# Altium schematic symbol library Блок вычислительный 1а.SCHLIB: 82 symbols
Pins are listed as number, name and electrical type; pins without a type are passive.

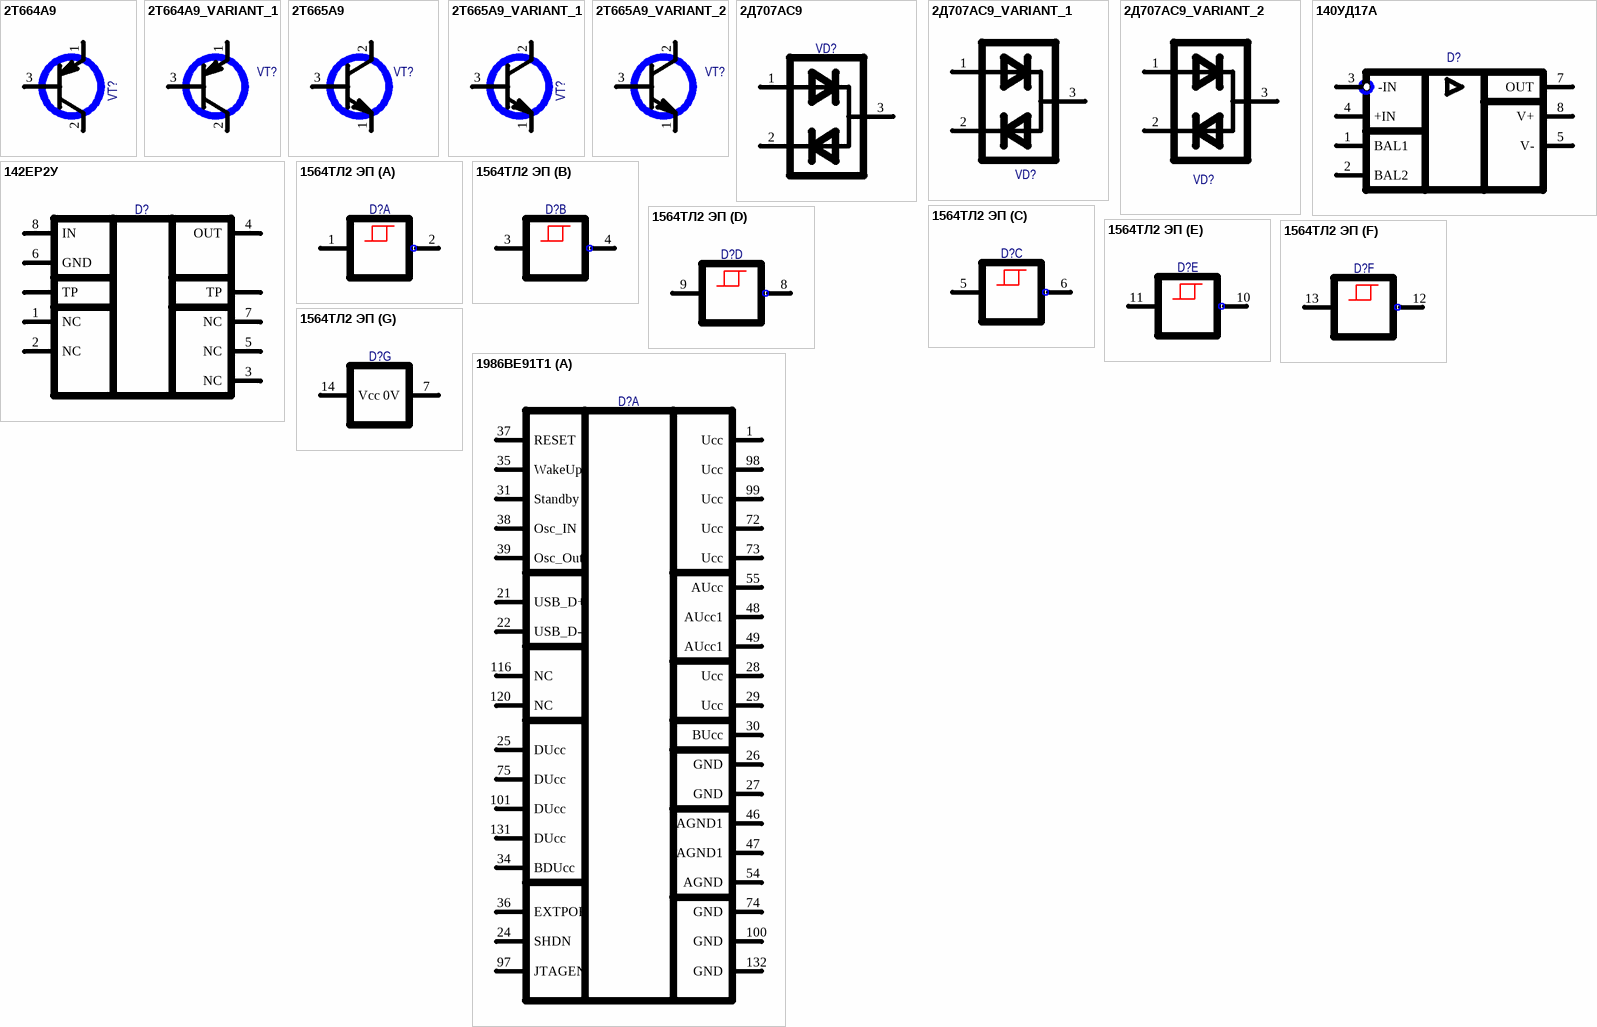
[diagram p0: symbols 2T664A9 to 1986ВЕ91Т1]

## 2T664A9
designator VT?  (value not drawn)
TU: аА0.339.559ТУ; Value: 2T664A9
pins: 1, 2, 3

## 2T664A9_VARIANT_1
designator VT?, comment 2T664A9  (value not drawn)
2T664A9_VARIANT_1; TU: аА0.339.559ТУ; Value: 2T664A9
pins: 1, 2, 3

## 2T665A9
designator VT?  (value not drawn)
TU: аА0.339.559ТУ; Value: 2T665A9
pins: 1, 2, 3

## 2T665A9_VARIANT_1
designator VT?, comment 2T665A9  (value not drawn)
2T665A9_VARIANT_1; TU: аА0.339.559ТУ; Value: 2T665A9
pins: 1, 2, 3

## 2T665A9_VARIANT_2
designator VT?, comment 2T665A9  (value not drawn)
2T665A9_VARIANT_2; TU: аА0.339.559ТУ; Value: 2T665A9
pins: 1, 2, 3

## 2Д707АС9
designator VD?  (value not drawn)
TU: аА0.339.583ТУ; Value: 2Д707АС9
pins: 1, 2, 3

## 2Д707АС9_VARIANT_1
designator VD?, comment 2Д707АС9  (value not drawn)
2Д707АС9_VARIANT_1; TU: аА0.339.583ТУ; Value: 2Д707АС9
pins: 1, 2, 3

## 2Д707АС9_VARIANT_2
designator VD?, comment 2Д707АС9  (value not drawn)
2Д707АС9_VARIANT_2; TU: аА0.339.583ТУ; Value: 2Д707АС9
pins: 1, 2, 3

## 140УД17А
designator D?  (value not drawn)
Value: 140УД17А ВК; TU: АЕЯР.431130.171-17ТУ
pins: 1 BAL1, 2 BAL2, 3 -IN, 4 +IN, 5 V-, 7 OUT, 8 V+

## 142ЕР2У
designator D?  (value not drawn)
TU: АЕЯР.431420.363-01ТУ; Value: 142ЕР2У
pins: 1 NC, 2 NC, 3 NC, 4 OUT, 5 NC, 6 GND, 7 NC, 8 IN, TP1 TP, TP2 TP

## 1564ТЛ2 ЭП
designator D?  (value not drawn)
TU: АЕЯР.431200.424-07ТУ; Value: 1564ТЛ2 ЭП
part A pins: 1, 2
part B pins: 3, 4
part C pins: 5, 6
part D pins: 8, 9
part E pins: 10, 11
part F pins: 12, 13
part G pins: 7 0V, 14 Vcc

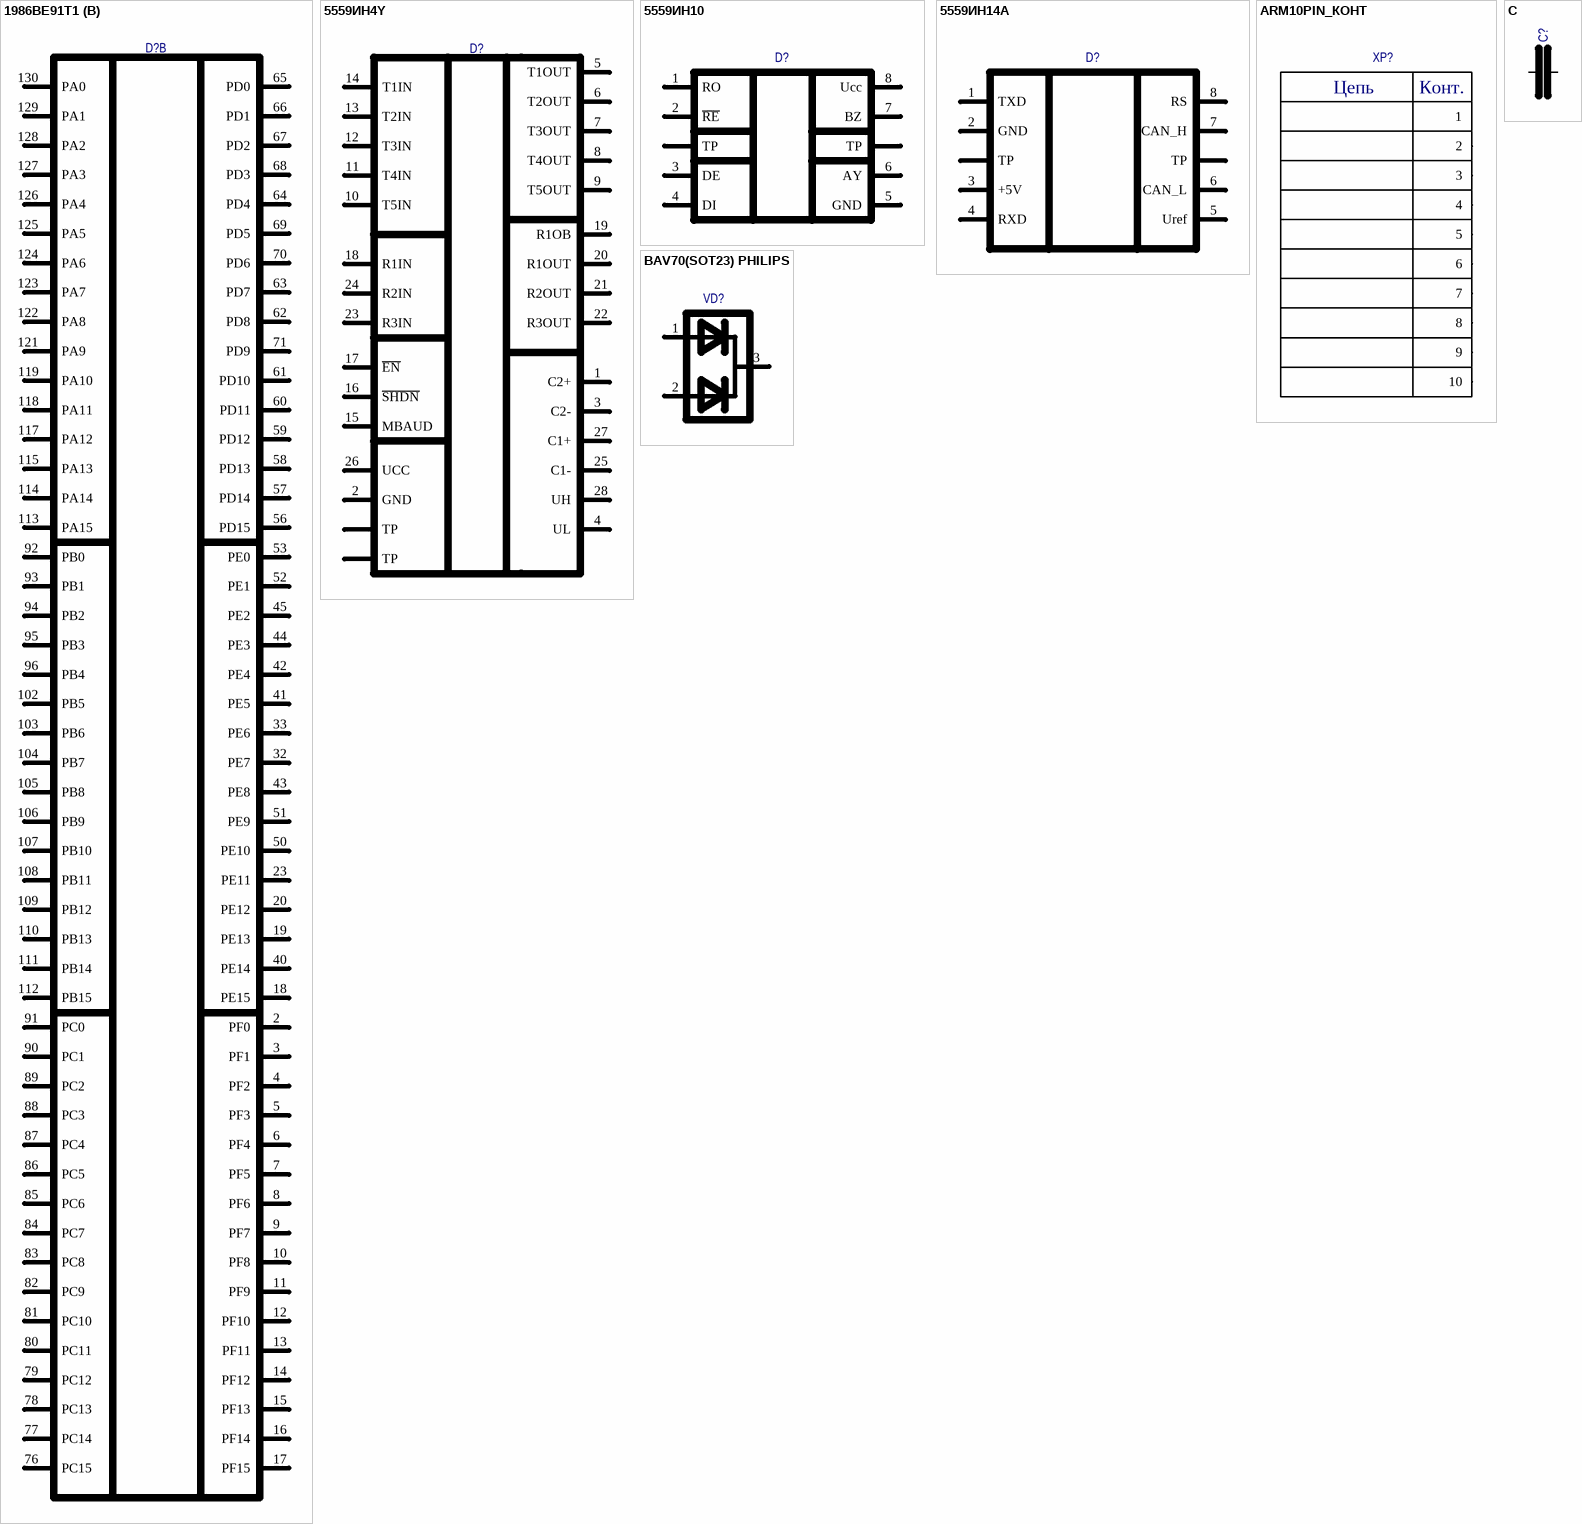
[diagram p1: symbols 1986ВЕ91Т1 to C]

## 1986ВЕ91Т1
designator D?  (value not drawn)
TU: АЕЯР.431290.711ТУ; Value: 1986ВЕ91Т1
part A pins: 1 Ucc, 21 USB_D+, 22 USB_D-, 24 SHDN, 25 DUcc, 26 GND, 27 GND, 28 Ucc, 29 Ucc, 30 BUcc, 31 Standby, 34 BDUcc, 35 WakeUp, 36 EXTPOR, 37 RESET, 38 Osc_IN, 39 Osc_Out, 46 AGND1, 47 AGND1, 48 AUcc1, 49 AUcc1, 54 AGND, 55 AUcc, 72 Ucc, 73 Ucc, 74 GND, 75 DUcc, 97 JTAGEN, 98 Ucc, 99 Ucc, 100 GND, 101 DUcc, 116 NC, 120 NC, 131 DUcc, 132 GND
part B pins: 2 PF0, 3 PF1, 4 PF2, 5 PF3, 6 PF4, 7 PF5, 8 PF6, 9 PF7, 10 PF8, 11 PF9, 12 PF10, 13 PF11, 14 PF12, 15 PF13, 16 PF14, 17 PF15, 18 PE15, 19 PE13, 20 PE12, 23 PE11, 32 PE7, 33 PE6, 40 PE14, 41 PE5, 42 PE4, 43 PE8, 44 PE3, 45 PE2, 50 PE10, 51 PE9, 52 PE1, 53 PE0, 56 PD15, 57 PD14, 58 PD13, 59 PD12, 60 PD11, 61 PD10, 62 PD8, 63 PD7, 64 PD4, 65 PD0, 66 PD1, 67 PD2, 68 PD3, 69 PD5, 70 PD6, 71 PD9, 76 PC15, 77 PC14, 78 PC13, 79 PC12, 80 PC11, 81 PC10, 82 PC9, 83 PC8, 84 PC7, 85 PC6, 86 PC5, 87 PC4, 88 PC3, 89 PC2, 90 PC1, 91 PC0, 92 PB0, 93 PB1, 94 PB2, 95 PB3, 96 PB4, 102 PB5, 103 PB6, 104 PB7, 105 PB8, 106 PB9, 107 PB10, 108 PB11, 109 PB12, 110 PB13, 111 PB14, 112 PB15, 113 PA15, 114 PA14, 115 PA13, 117 PA12, 118 PA11, 119 PA10, 121 PA9, 122 PA8, 123 PA7, 124 PA6, 125 PA5, 126 PA4, 127 PA3, 128 PA2, 129 PA1, 130 PA0

## 5559ИН4Y
designator D?  (value not drawn)
Value: 5559ИН4У; TU: АЕЯР.431230.460ТУ
pins: 1 C2+, 2 GND, 3 C2-, 4 UL, 5 T1OUT, 6 T2OUT, 7 T3OUT, 8 T4OUT, 9 T5OUT, 10 T5IN, 11 T4IN, 12 T3IN, 13 T2IN, 14 T1IN, 15 MBAUD, 16 ~{SHDN}, 17 ~{EN}, 18 R1IN, 19 R1OB, 20 R1OUT, 21 R2OUT, 22 R3OUT, 23 R3IN, 24 R2IN, 25 C1-, 26 UCC, 27 C1+, 28 UH, TP1 TP, TP2 TP

## 5559ИН10
designator D?  (value not drawn)
Value: 5559ИН10АУ; TU: АЕЯР.431230.645ТУ
pins: 1 RO, 2 ~{RE}, 3 DE, 4 DI, 5 GND, 6 AY, 7 BZ, 8 Ucc, TP1 TP, TP2 TP

## 5559ИН14А
designator D?  (value not drawn)
Value: 5559ИН14АУ; TU: АЕЯР.431230.652ТУ
pins: 1 TXD, 2 GND, 3 +5V, 4 RXD, 5 Uref, 6 CAN_L, 7 CAN_H, 8 RS, TP1 TP, TP2 TP

## ARM10PIN_КОНТ
designator XP?  (value not drawn)
Value: Вилка СНП346-10ВП21-2В; TU: РЮМК.430420.011ТУ
pins: 1, 2, 3, 4, 5, 6, 7, 8, 9, 10
text: Цепь; Конт.

## BAV70(SOT23) PHILIPS
designator VD?  (value not drawn)
Value: Диод BAT54C, SOT-23, Fairchild semiconductor
pins: 1, 2, 3

## C
designator C?  (value not drawn)
TU: АЖЯР.673511.002ТУ
pins: 1, 2

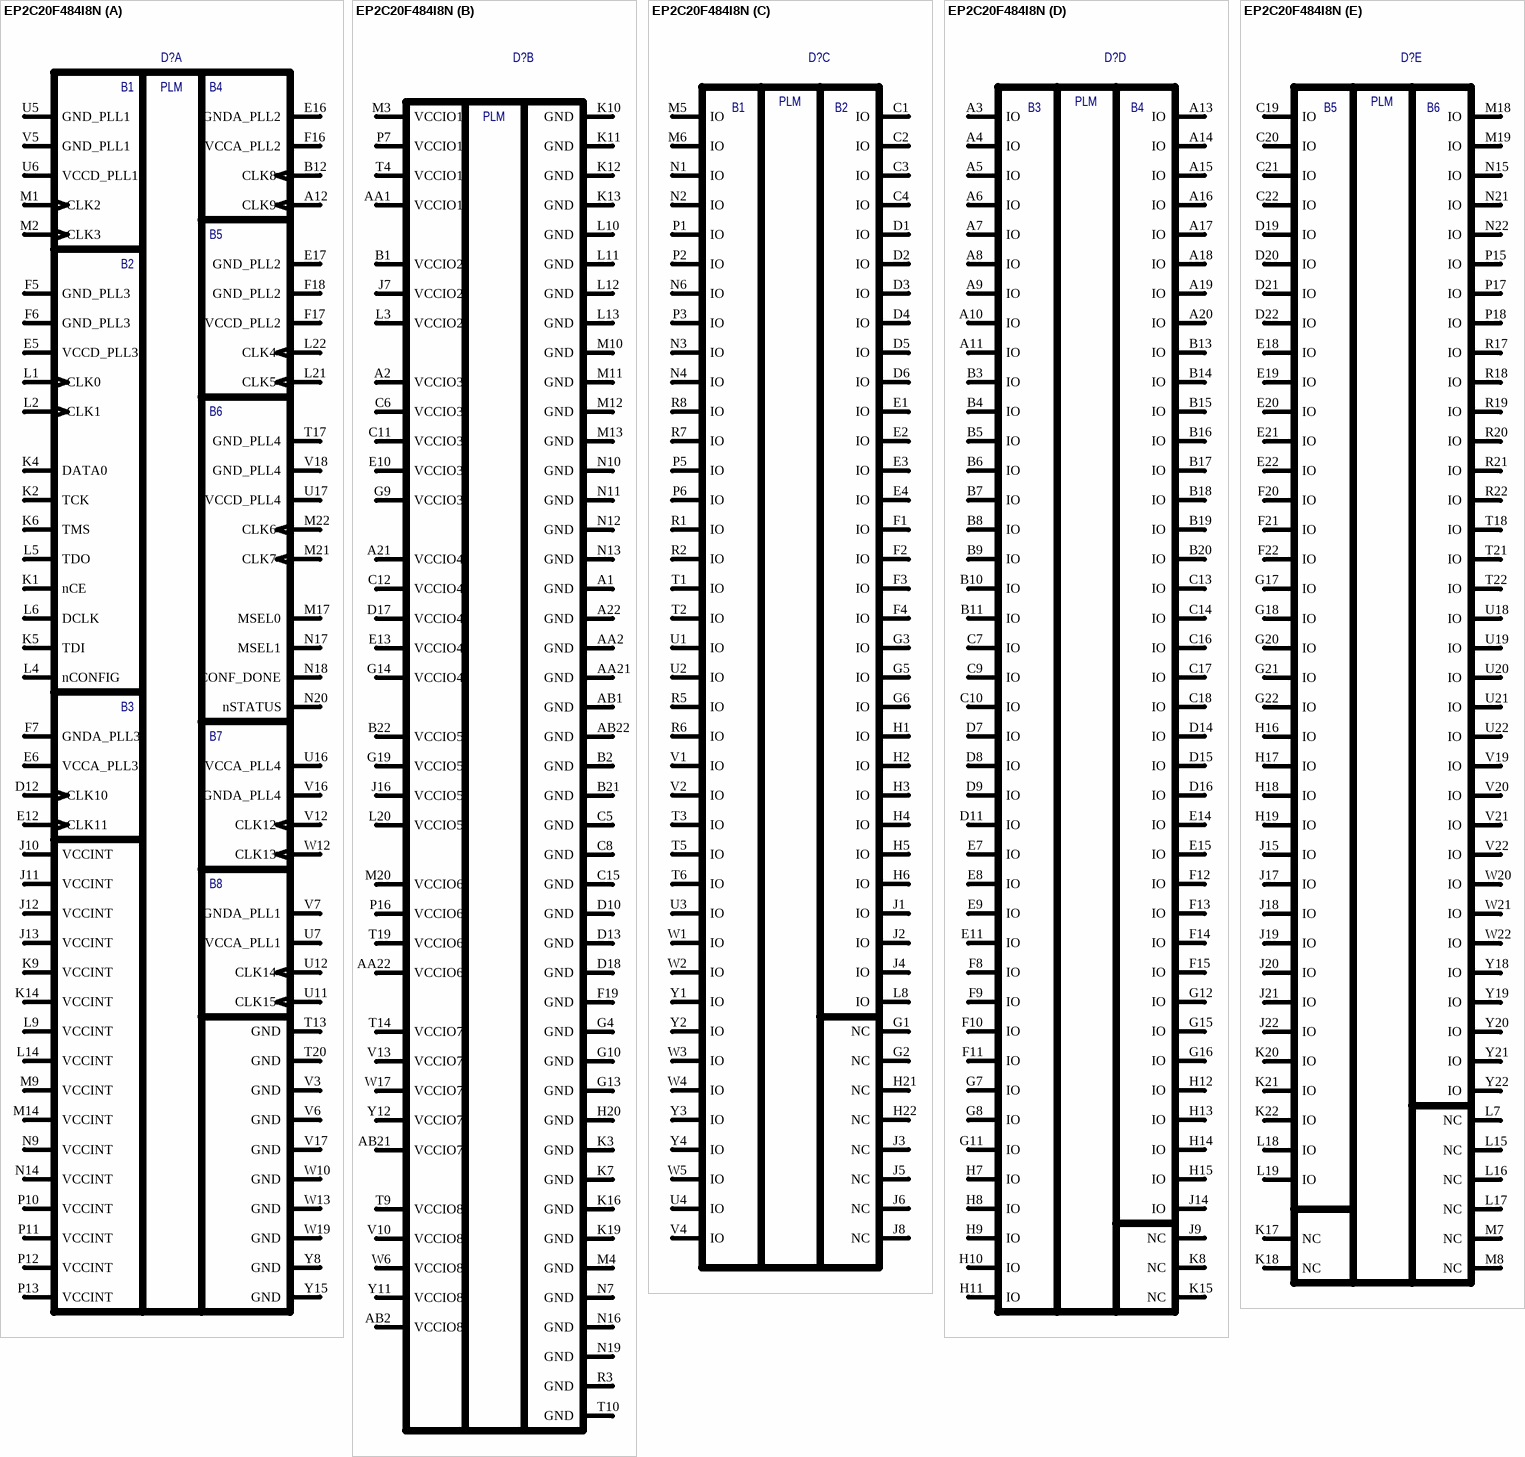
[diagram p2: symbol EP2C20F484I8N]

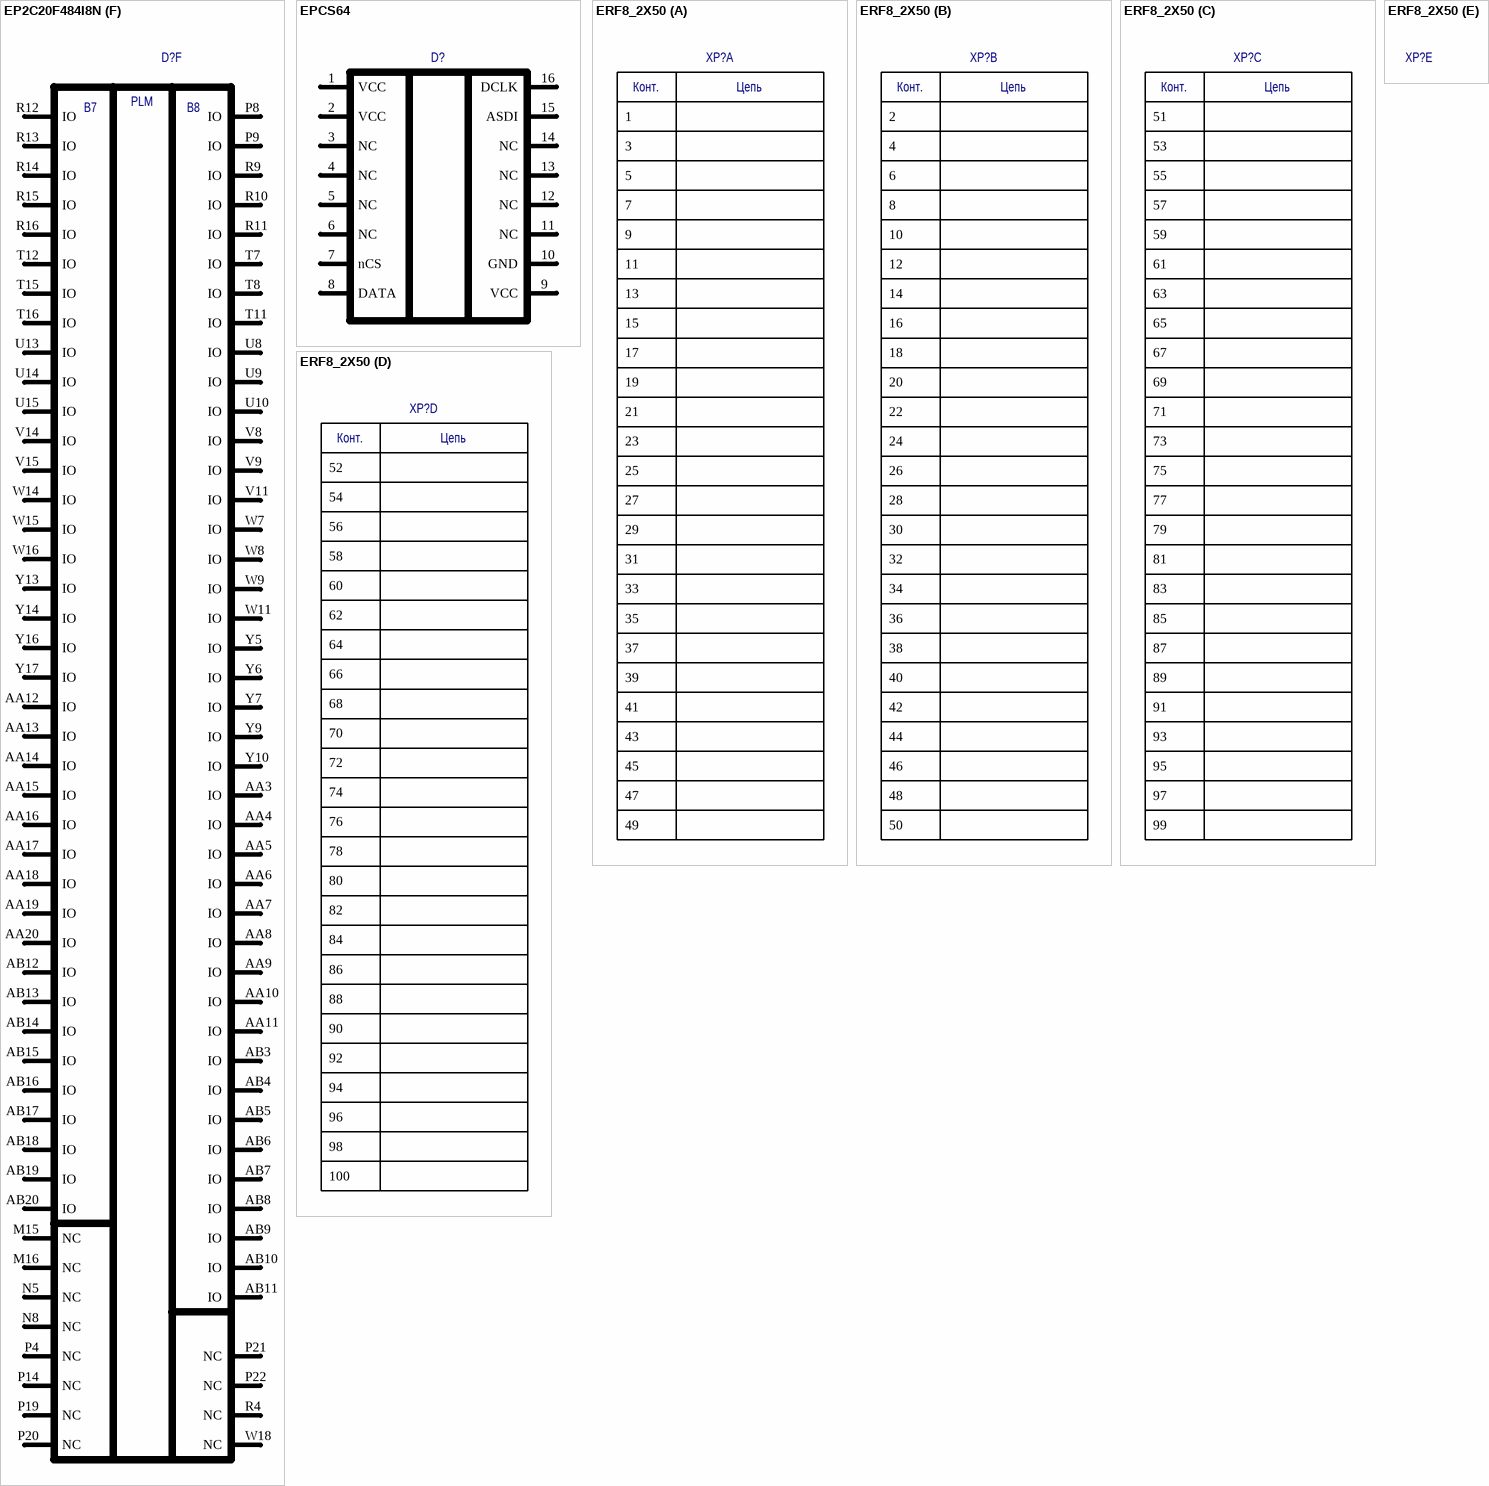
[diagram p3: symbols EP2C20F484I8N to ERF8_2X50]

## EP2C20F484I8N
designator D?  (value not drawn)
Value: EP2C20F484I8N, FBGA-484, Altera
part A pins: A12 CLK9, B12 CLK8, D12 CLK10, E5 VCCD_PLL3, E6 VCCA_PLL3, E12 CLK11, E16 GNDA_PLL2, E17 GND_PLL2, F5 GND_PLL3, F6 GND_PLL3, F7 GNDA_PLL3, F16 VCCA_PLL2, F17 VCCD_PLL2, F18 GND_PLL2, J10 VCCINT, J11 VCCINT, J12 VCCINT, J13 VCCINT, K1 nCE, K2 TCK, K4 DATA0, K5 TDI, K6 TMS, K9 VCCINT, K14 VCCINT, L1 CLK0, L2 CLK1, L4 nCONFIG, L5 TDO, L6 DCLK, L9 VCCINT, L14 VCCINT, L21 CLK5, L22 CLK4, M1 CLK2, M2 CLK3, M9 VCCINT, M14 VCCINT, M17 MSEL0, M21 CLK7, M22 CLK6, N9 VCCINT, N14 VCCINT, N17 MSEL1, N18 CONF_DONE, N20 nSTATUS, P10 VCCINT, P11 VCCINT, P12 VCCINT, P13 VCCINT, T13 GND, T17 GND_PLL4, T20 GND, U5 GND_PLL1, U6 VCCD_PLL1, U7 VCCA_PLL1, U11 CLK15, U12 CLK14, U16 VCCA_PLL4, U17 VCCD_PLL4, V3 GND, V5 GND_PLL1, V6 GND, V7 GNDA_PLL1, V12 CLK12, V16 GNDA_PLL4, V17 GND, V18 GND_PLL4, W10 GND, W12 CLK13, W13 GND, W19 GND, Y8 GND, Y15 GND
part B pins: A1 GND, A2 VCCIO3, A21 VCCIO4, A22 GND, AA1 VCCIO1, AA2 GND, AA21 GND, AA22 VCCIO6, AB1 GND, AB2 VCCIO8, AB21 VCCIO7, AB22 GND, B1 VCCIO2, B2 GND, B21 GND, B22 VCCIO5, C5 GND, C6 VCCIO3, C8 GND, C11 VCCIO3, C12 VCCIO4, C15 GND, D10 GND, D13 GND, D17 VCCIO4, D18 GND, E10 VCCIO3, E13 VCCIO4, F19 GND, G4 GND, G9 VCCIO3, G10 GND, G13 GND, G14 VCCIO4, G19 VCCIO5, H20 GND, J7 VCCIO2, J16 VCCIO5, K3 GND, K7 GND, K10 GND, K11 GND, K12 GND, K13 GND, K16 GND, K19 GND, L3 VCCIO2, L10 GND, L11 GND, L12 GND, L13 GND, L20 VCCIO5, M3 VCCIO1, M4 GND, M10 GND, M11 GND, M12 GND, M13 GND, M20 VCCIO6, N7 GND, N10 GND, N11 GND, N12 GND, N13 GND, N16 GND, N19 GND, P7 VCCIO1, P16 VCCIO6, R3 GND, T4 VCCIO1, T9 VCCIO8, T10 GND, T14 VCCIO7, T19 VCCIO6, V10 VCCIO8, V13 VCCIO7, W6 VCCIO8, W17 VCCIO7, Y11 VCCIO8, Y12 VCCIO7
part C pins: C1 IO, C2 IO, C3 IO, C4 IO, D1 IO, D2 IO, D3 IO, D4 IO, D5 IO, D6 IO, E1 IO, E2 IO, E3 IO, E4 IO, F1 IO, F2 IO, F3 IO, F4 IO, G1 NC, G2 NC, G3 IO, G5 IO, G6 IO, H1 IO, H2 IO, H3 IO, H4 IO, H5 IO, H6 IO, H21 NC, H22 NC, J1 IO, J2 IO, J3 NC, J4 IO, J5 NC, J6 NC, J8 NC, L8 IO, M5 IO, M6 IO, N1 IO, N2 IO, N3 IO, N4 IO, N6 IO, P1 IO, P2 IO, P3 IO, P5 IO, P6 IO, R1 IO, R2 IO, R5 IO, R6 IO, R7 IO, R8 IO, T1 IO, T2 IO, T3 IO, T5 IO, T6 IO, U1 IO, U2 IO, U3 IO, U4 IO, V1 IO, V2 IO, V4 IO, W1 IO, W2 IO, W3 IO, W4 IO, W5 IO, Y1 IO, Y2 IO, Y3 IO, Y4 IO
part D pins: A3 IO, A4 IO, A5 IO, A6 IO, A7 IO, A8 IO, A9 IO, A10 IO, A11 IO, A13 IO, A14 IO, A15 IO, A16 IO, A17 IO, A18 IO, A19 IO, A20 IO, B3 IO, B4 IO, B5 IO, B6 IO, B7 IO, B8 IO, B9 IO, B10 IO, B11 IO, B13 IO, B14 IO, B15 IO, B16 IO, B17 IO, B18 IO, B19 IO, B20 IO, C7 IO, C9 IO, C10 IO, C13 IO, C14 IO, C16 IO, C17 IO, C18 IO, D7 IO, D8 IO, D9 IO, D11 IO, D14 IO, D15 IO, D16 IO, E7 IO, E8 IO, E9 IO, E11 IO, E14 IO, E15 IO, F8 IO, F9 IO, F10 IO, F11 IO, F12 IO, F13 IO, F14 IO, F15 IO, G7 IO, G8 IO, G11 IO, G12 IO, G15 IO, G16 IO, H7 IO, H8 IO, H9 IO, H10 IO, H11 IO, H12 IO, H13 IO, H14 IO, H15 IO, J9 NC, J14 IO, K8 NC, K15 NC
part E pins: C19 IO, C20 IO, C21 IO, C22 IO, D19 IO, D20 IO, D21 IO, D22 IO, E18 IO, E19 IO, E20 IO, E21 IO, E22 IO, F20 IO, F21 IO, F22 IO, G17 IO, G18 IO, G20 IO, G21 IO, G22 IO, H16 IO, H17 IO, H18 IO, H19 IO, J15 IO, J17 IO, J18 IO, J19 IO, J20 IO, J21 IO, J22 IO, K17 NC, K18 NC, K20 IO, K21 IO, K22 IO, L7 NC, L15 NC, L16 NC, L17 NC, L18 IO, L19 IO, M7 NC, M8 NC, M18 IO, M19 IO, N15 IO, N21 IO, N22 IO, P15 IO, P17 IO, P18 IO, R17 IO, R18 IO, R19 IO, R20 IO, R21 IO, R22 IO, T18 IO, T21 IO, T22 IO, U18 IO, U19 IO, U20 IO, U21 IO, U22 IO, V19 IO, V20 IO, V21 IO, V22 IO, W20 IO, W21 IO, W22 IO, Y18 IO, Y19 IO, Y20 IO, Y21 IO, Y22 IO
part F pins: AA3 IO, AA4 IO, AA5 IO, AA6 IO, AA7 IO, AA8 IO, AA9 IO, AA10 IO, AA11 IO, AA12 IO, AA13 IO, AA14 IO, AA15 IO, AA16 IO, AA17 IO, AA18 IO, AA19 IO, AA20 IO, AB3 IO, AB4 IO, AB5 IO, AB6 IO, AB7 IO, AB8 IO, AB9 IO, AB10 IO, AB11 IO, AB12 IO, AB13 IO, AB14 IO, AB15 IO, AB16 IO, AB17 IO, AB18 IO, AB19 IO, AB20 IO, M15 NC, M16 NC, N5 NC, N8 NC, P4 NC, P8 IO, P9 IO, P14 NC, P19 NC, P20 NC, P21 NC, P22 NC, R4 NC, R9 IO, R10 IO, R11 IO, R12 IO, R13 IO, R14 IO, R15 IO, R16 IO, T7 IO, T8 IO, T11 IO, T12 IO, T15 IO, T16 IO, U8 IO, U9 IO, U10 IO, U13 IO, U14 IO, U15 IO, V8 IO, V9 IO, V11 IO, V14 IO, V15 IO, W7 IO, W8 IO, W9 IO, W11 IO, W14 IO, W15 IO, W16 IO, W18 NC, Y5 IO, Y6 IO, Y7 IO, Y9 IO, Y10 IO, Y13 IO, Y14 IO, Y16 IO, Y17 IO
part A text: PLM
part B text: PLM
part C text: PLM
part D text: PLM
part E text: PLM
part F text: PLM

## EPCS64
designator D?  (value not drawn)
Value: EPCS64SI16N, SOIC-16, Altera
pins: 1 VCC, 2 VCC, 3 NC, 4 NC, 5 NC, 6 NC, 7 nCS, 8 DATA, 9 VCC, 10 GND, 11 NC, 12 NC, 13 NC, 14 NC, 15 ASDI, 16 DCLK

## ERF8_2X50
designator XP?  (value not drawn)
Value: ERM8-050-05.0-x-DV-L-TR, Samtec
part A pins: 1, 3, 5, 7, 9, 11, 13, 15, 17, 19, 21, 23, 25, 27, 29, 31, 33, 35, 37, 39, 41, 43, 45, 47, 49
part B pins: 2, 4, 6, 8, 10, 12, 14, 16, 18, 20, 22, 24, 26, 28, 30, 32, 34, 36, 38, 40, 42, 44, 46, 48, 50
part C pins: 51, 53, 55, 57, 59, 61, 63, 65, 67, 69, 71, 73, 75, 77, 79, 81, 83, 85, 87, 89, 91, 93, 95, 97, 99
part D pins: 52, 54, 56, 58, 60, 62, 64, 66, 68, 70, 72, 74, 76, 78, 80, 82, 84, 86, 88, 90, 92, 94, 96, 98, 100
part A text: Конт.; Цепь
part B text: Конт.; Цепь
part C text: Конт.; Цепь
part D text: Конт.; Цепь

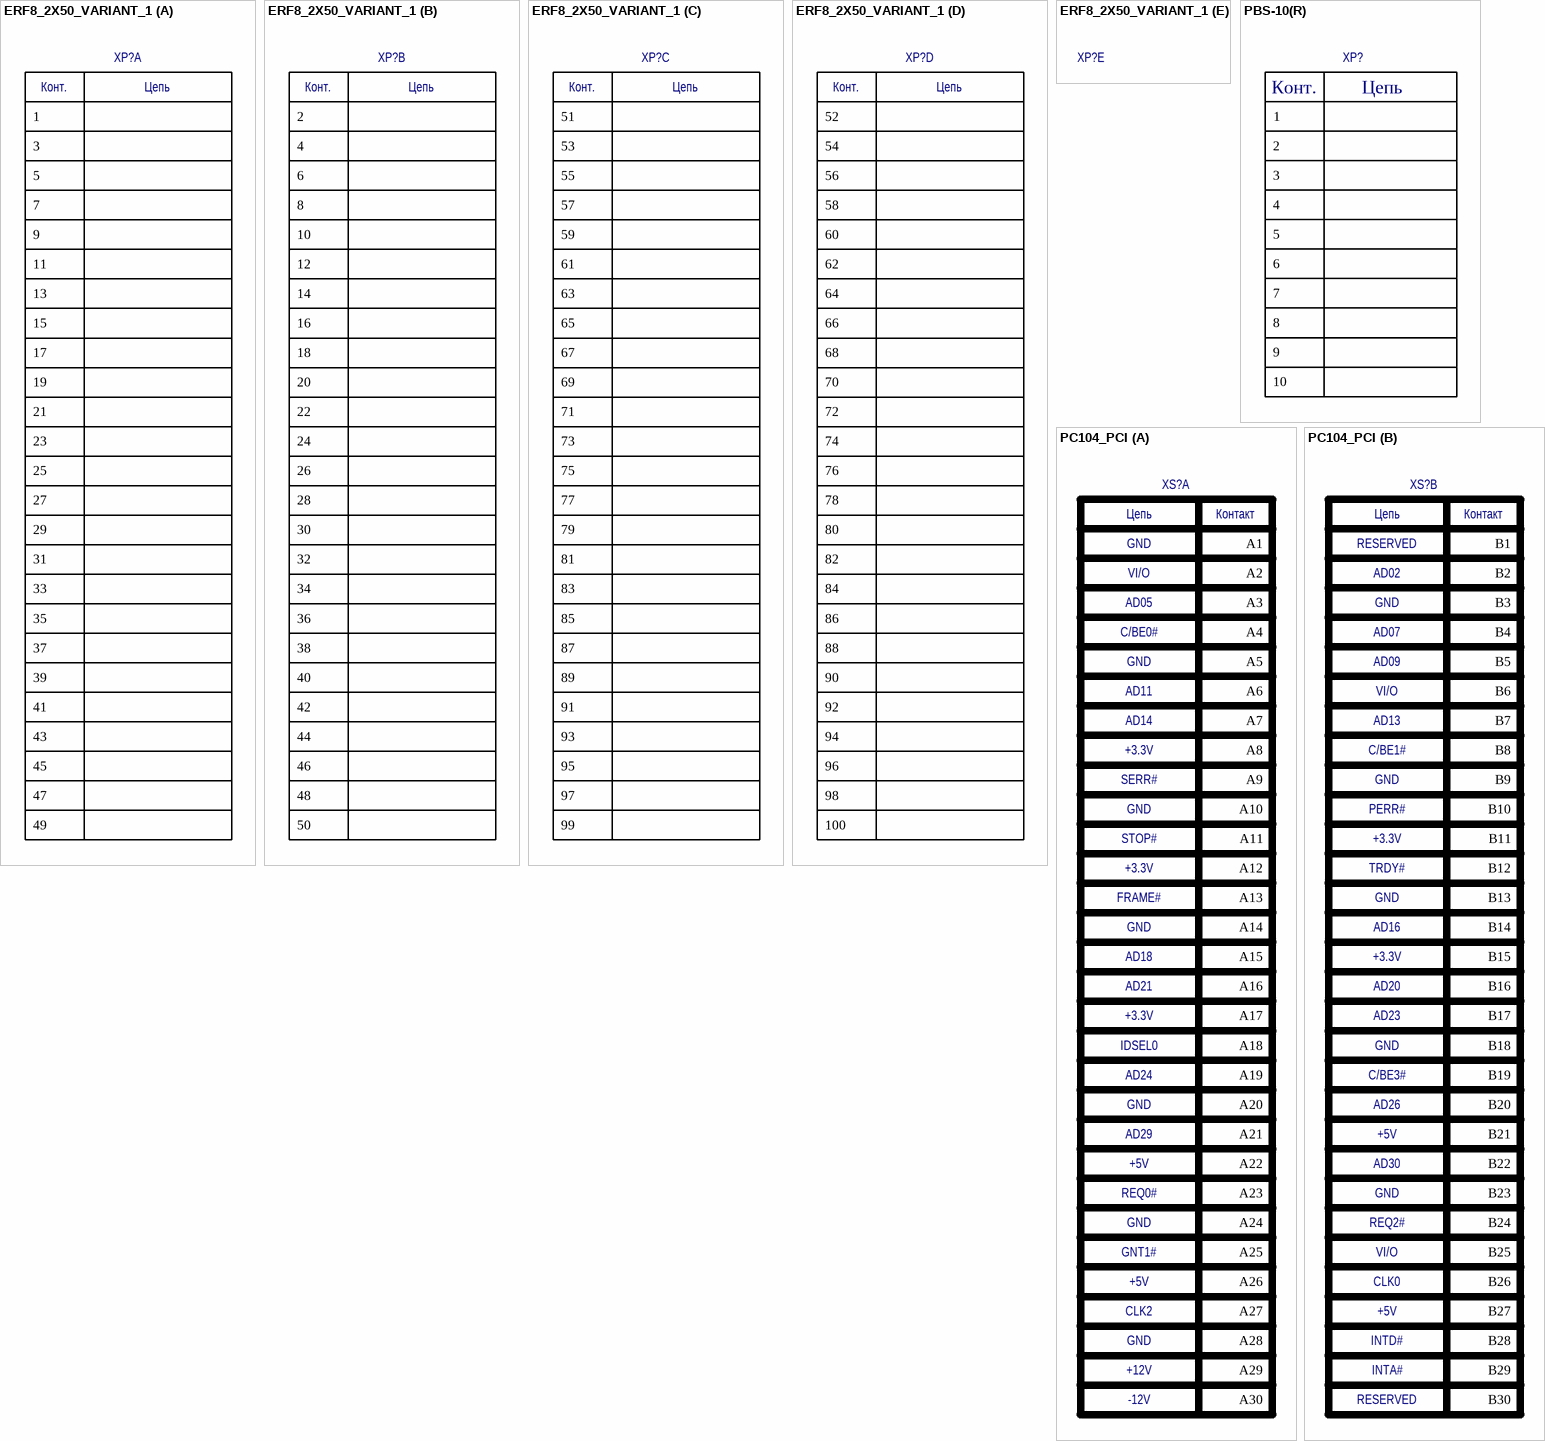
[diagram p4: symbols ERF8_2X50_VARIANT_1 to PC104_PCI]

## ERF8_2X50_VARIANT_1
designator XP?, comment ERF8_2X50  (value not drawn)
ERF8_2X50_VARIANT_1; Value: ERM8-050-05.0-x-DV-L-TR, Samtec
part A pins: 1, 3, 5, 7, 9, 11, 13, 15, 17, 19, 21, 23, 25, 27, 29, 31, 33, 35, 37, 39, 41, 43, 45, 47, 49
part B pins: 2, 4, 6, 8, 10, 12, 14, 16, 18, 20, 22, 24, 26, 28, 30, 32, 34, 36, 38, 40, 42, 44, 46, 48, 50
part C pins: 51, 53, 55, 57, 59, 61, 63, 65, 67, 69, 71, 73, 75, 77, 79, 81, 83, 85, 87, 89, 91, 93, 95, 97, 99
part D pins: 52, 54, 56, 58, 60, 62, 64, 66, 68, 70, 72, 74, 76, 78, 80, 82, 84, 86, 88, 90, 92, 94, 96, 98, 100
part A text: Конт.; Цепь
part B text: Конт.; Цепь
part C text: Конт.; Цепь
part D text: Конт.; Цепь

## PBS-10(R)
designator XP?  (value not drawn)
Value: B10B-PUDSS-1, JST (JAPAN SOLDERLESS TERMINALS)
pins: 1, 2, 3, 4, 5, 6, 7, 8, 9, 10
text: Конт.; Цепь

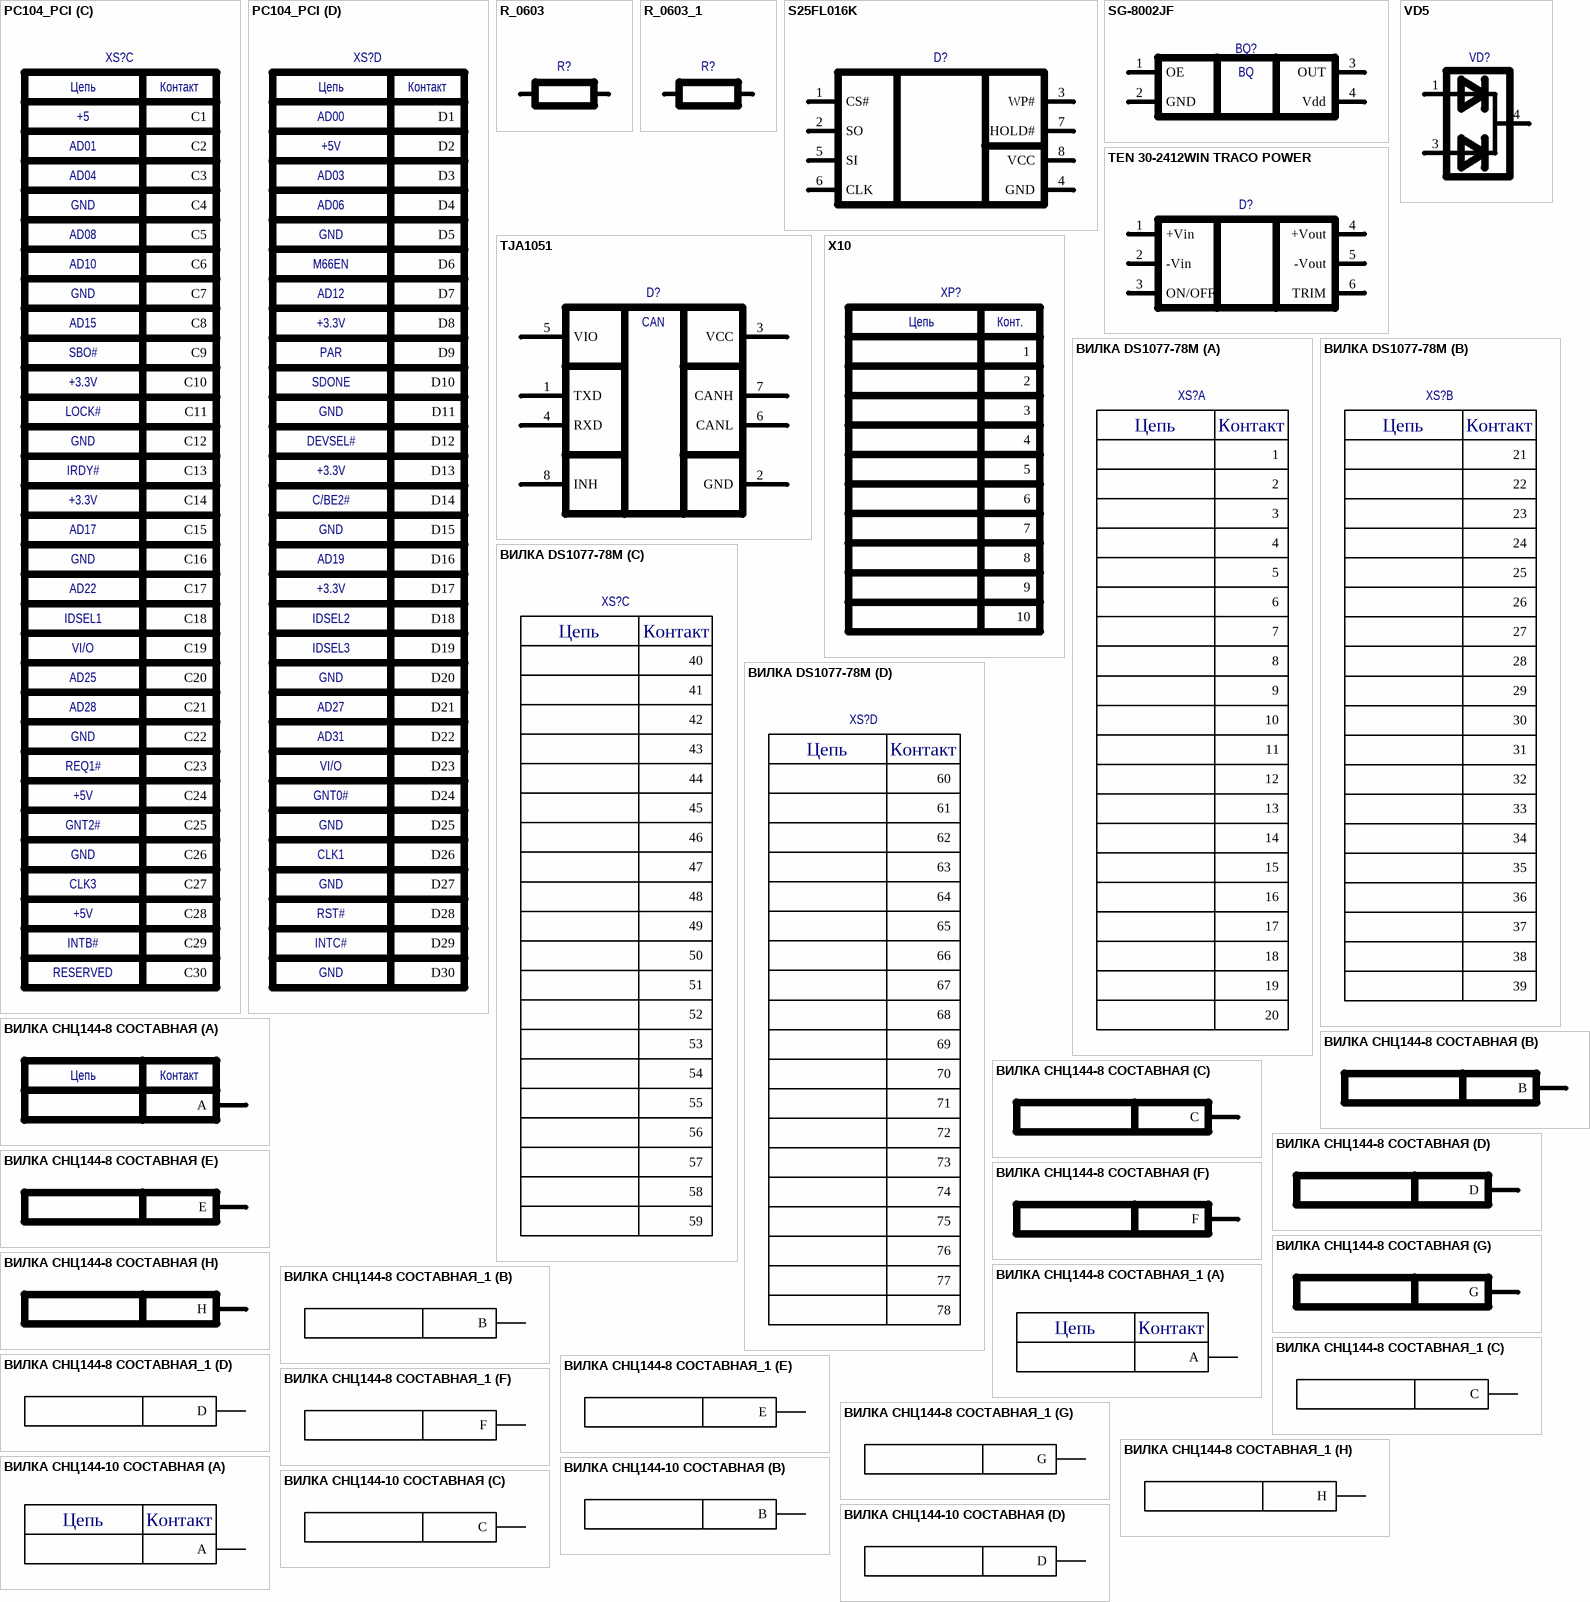
[diagram p5: symbols PC104_PCI to ВИЛКА СНЦ144-10 СОСТАВНАЯ]

## PC104_PCI
designator XS?  (value not drawn)
Value: M22-6013005, Harwin
part A pins: A1, A2, A3, A4, A5, A6, A7, A8, A9, A10, A11, A12, A13, A14, A15, A16, A17, A18, A19, A20, A21, A22, A23, A24, A25, A26, A27, A28, A29, A30
part B pins: B1, B2, B3, B4, B5, B6, B7, B8, B9, B10, B11, B12, B13, B14, B15, B16, B17, B18, B19, B20, B21, B22, B23, B24, B25, B26, B27, B28, B29, B30
part C pins: C1, C2, C3, C4, C5, C6, C7, C8, C9, C10, C11, C12, C13, C14, C15, C16, C17, C18, C19, C20, C21, C22, C23, C24, C25, C26, C27, C28, C29, C30
part D pins: D1, D2, D3, D4, D5, D6, D7, D8, D9, D10, D11, D12, D13, D14, D15, D16, D17, D18, D19, D20, D21, D22, D23, D24, D25, D26, D27, D28, D29, D30
part A text: Цепь; Контакт; GND; VI/O; AD05; C/BE0#; AD11; AD14; +3.3V; SERR#; STOP#; FRAME#; AD18; AD21; IDSEL0; AD24; AD29; +5V; REQ0#; GNT1#; CLK2; +12V; -12V
part B text: Цепь; Контакт; RESERVED; AD02; GND; AD07; AD09; VI/O; AD13; C/BE1#; PERR#; +3.3V; TRDY#; AD16; AD20; AD23; C/BE3#; AD26; +5V; AD30; REQ2#; CLK0; INTD#; INTA#
part C text: Цепь; Контакт; +5; AD01; AD04; GND; AD08; AD10; AD15; SBO#; +3.3V; LOCK#; IRDY#; AD17; AD22; IDSEL1; VI/O; AD25; AD28; REQ1#; +5V; GNT2#; CLK3; INTB#; RESERVED
part D text: Цепь; Контакт; AD00; +5V; AD03; AD06; GND; M66EN; AD12; +3.3V; PAR; SDONE; DEVSEL#; C/BE2#; AD19; IDSEL2; IDSEL3; AD27; AD31; VI/O; GNT0#; CLK1; RST#; INTC#

## R_0603
designator R?  (value not drawn)
Value: Р1-12-0,125-56 кОм±5 %-Т; TU: АЛЯР.434110.005ТУ
pins: 1, 2

## R_0603_1
designator R?, comment R_0603  (value not drawn)
Value: Р1-12-0,125-43 кОм±5 %-Т; TU: АЛЯР.434110.005ТУ
pins: 1, 2

## S25FL016K
designator D?  (value not drawn)
ROM; Value: S25FL016K0XMFI011, 8-pin SO package (208 mil), SPANSION
pins: 1 CS#, 2 SO, 3 WP#, 4 GND, 5 SI, 6 CLK, 7 HOLD#, 8 VCC

## SG-8002JF
designator BQ?  (value not drawn)
Value: SG-8002JF-PHM-40.000 MHz, Epson
pins: 1 OE, 2 GND, 3 OUT, 4 Vdd
text: BQ

## TEN 30-2412WIN TRACO POWER
designator D?  (value not drawn)
Value: TEN 30-2412WIN, TRACO POWER; Document: TRACO POWER; CompType: TEN 30-2412WIN
pins: 1 +Vin, 2 -Vin, 3 ON/OFF, 4 +Vout, 5 -Vout, 6 TRIM

## TJA1051
designator D?  (value not drawn)
Value: TJA1051T/3, NXP Semiconductors
pins: 1 TXD, 2 GND, 3 VCC, 4 RXD, 5 VIO, 6 CANL, 7 CANH, 8 INH
text: CAN

## VD5
designator VD?  (value not drawn)
Value: 2Д290ГС9; TU: АЕЯР.432120.217ТУ
pins: 1, 3, 4

## X10
designator XP?  (value not drawn)
Value: Вилка СНП346-10ВП21-2В; TU: РЮМК.430420.011ТУ
pins: 1, 2, 3, 4, 5, 6, 7, 8, 9, 10
text: Цепь; Конт.

## ВИЛКА DS1077-78M
designator XS?  (value not drawn)
Value: DS1077-78FB8(0)TSS, Connfly Electronic
part A pins: 1, 2, 3, 4, 5, 6, 7, 8, 9, 10, 11, 12, 13, 14, 15, 16, 17, 18, 19, 20
part B pins: 21, 22, 23, 24, 25, 26, 27, 28, 29, 30, 31, 32, 33, 34, 35, 36, 37, 38, 39
part C pins: 40, 41, 42, 43, 44, 45, 46, 47, 48, 49, 50, 51, 52, 53, 54, 55, 56, 57, 58, 59
part D pins: 60, 61, 62, 63, 64, 65, 66, 67, 68, 69, 70, 71, 72, 73, 74, 75, 76, 77, 78
part A text: Цепь; Контакт
part B text: Цепь; Контакт
part C text: Цепь; Контакт
part D text: Цепь; Контакт

## ВИЛКА СНЦ144-8 СОСТАВНАЯ
designator XP?  (value not drawn)
Value: Вилка СНЦ144-8/13ВП21-AWПС; TU: ЦСНК.430421.008ТУ
part A pins: A
part B pins: B
part C pins: C
part D pins: D
part E pins: E
part F pins: F
part G pins: G
part H pins: H
part A text: Цепь; Контакт

## ВИЛКА СНЦ144-8 СОСТАВНАЯ_1
designator XP?, comment ВИЛКА СНЦ144-8 СОСТАВНАЯ  (value not drawn)
Value: Вилка СНЦ144-8/13ВП21-NWПС; TU: ЦСНК.430421.008ТУ
part A pins: A
part B pins: B
part C pins: C
part D pins: D
part E pins: E
part F pins: F
part G pins: G
part H pins: H
part A text: Цепь; Контакт

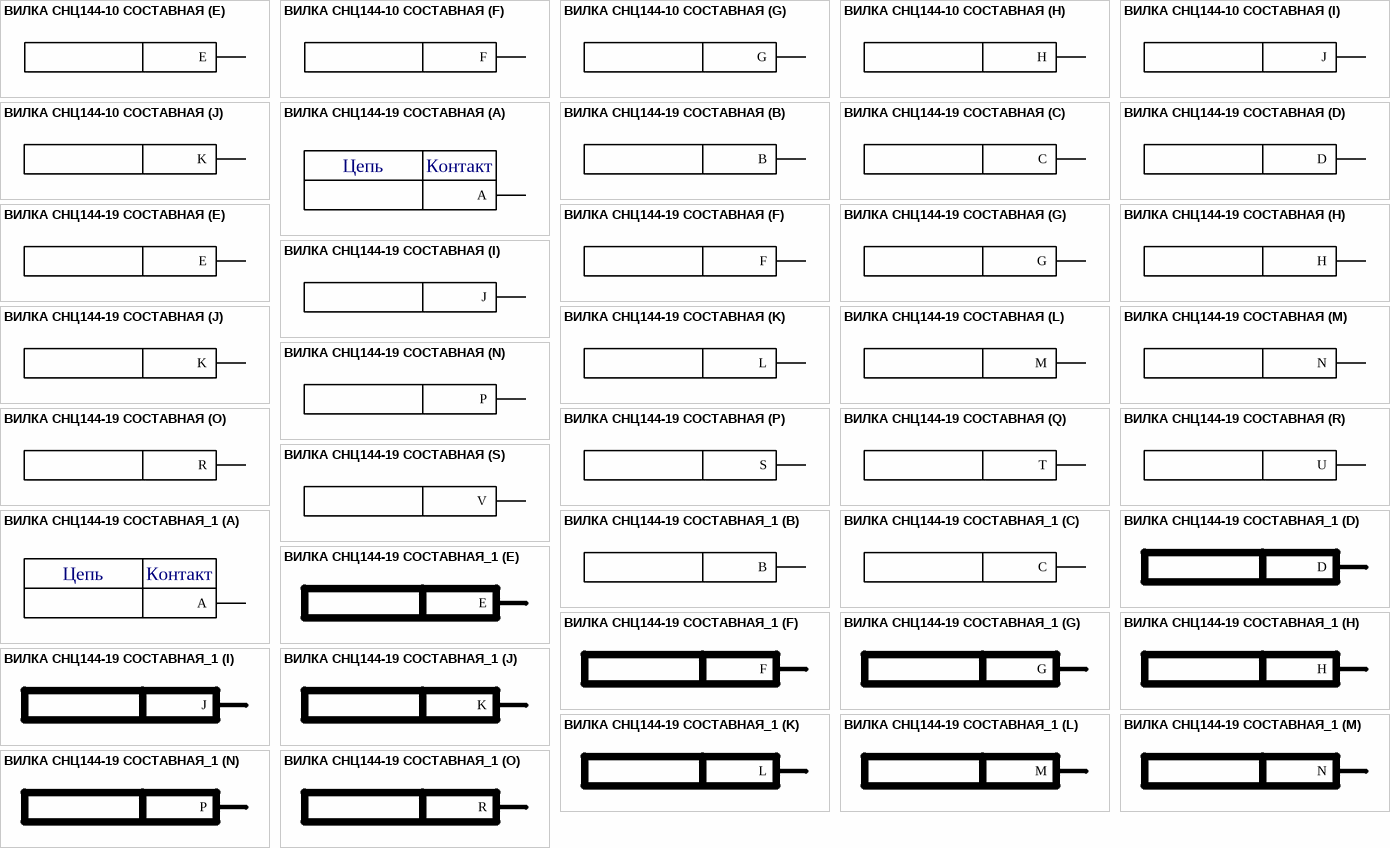
[diagram p6: symbols ВИЛКА СНЦ144-10 СОСТАВНАЯ to ВИЛКА СНЦ144-19 СОСТАВНАЯ_1]

## ВИЛКА СНЦ144-10 СОСТАВНАЯ
designator XP?  (value not drawn)
Value: Вилка СНЦ144-10/13ВП21-NWПС; TU: ЦСНК.430421.008ТУ
part A pins: A
part B pins: B
part C pins: C
part D pins: D
part E pins: E
part F pins: F
part G pins: G
part H pins: H
part I pins: J
part J pins: K
part A text: Цепь; Контакт

## ВИЛКА СНЦ144-19 СОСТАВНАЯ
designator XP?  (value not drawn)
Value: Вилка СНЦ144-19/15ВП21-AWПС; TU: ЦСНК.430421.008ТУ
part A pins: A
part B pins: B
part C pins: C
part D pins: D
part E pins: E
part F pins: F
part G pins: G
part H pins: H
part I pins: J
part J pins: K
part K pins: L
part L pins: M
part M pins: N
part N pins: P
part O pins: R
part P pins: S
part Q pins: T
part R pins: U
part S pins: V
part A text: Цепь; Контакт

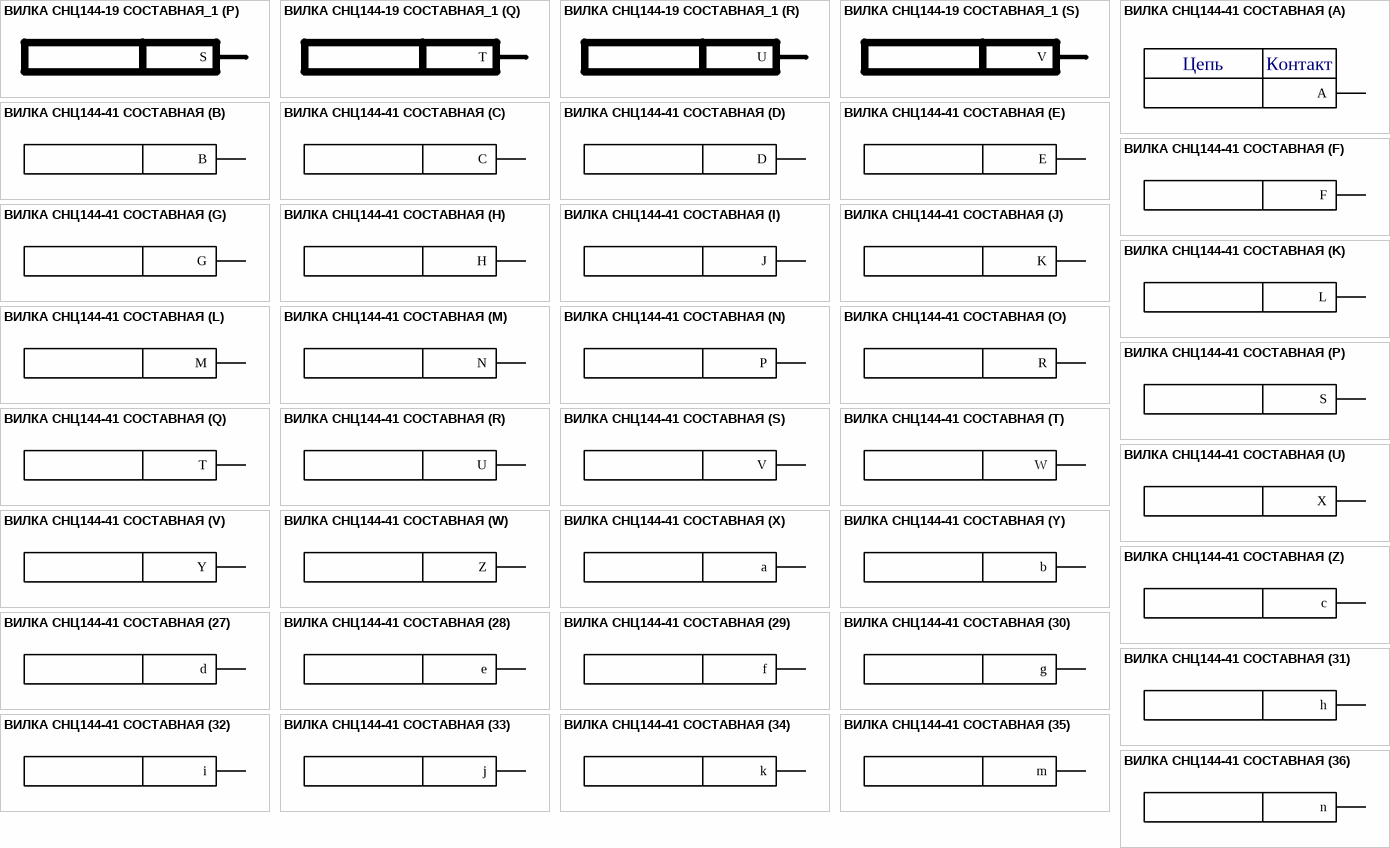
[diagram p7: symbols ВИЛКА СНЦ144-19 СОСТАВНАЯ_1 to ВИЛКА СНЦ144-41 СОСТАВНАЯ]

## ВИЛКА СНЦ144-19 СОСТАВНАЯ_1
designator XP?, comment ВИЛКА СНЦ144-19 СОСТАВНАЯ  (value not drawn)
Value: Вилка СНЦ144-19/15ВП21-NWПС; TU: ЦСНК.430421.008ТУ
part A pins: A
part B pins: B
part C pins: C
part D pins: D
part E pins: E
part F pins: F
part G pins: G
part H pins: H
part I pins: J
part J pins: K
part K pins: L
part L pins: M
part M pins: N
part N pins: P
part O pins: R
part P pins: S
part Q pins: T
part R pins: U
part S pins: V
part A text: Цепь; Контакт

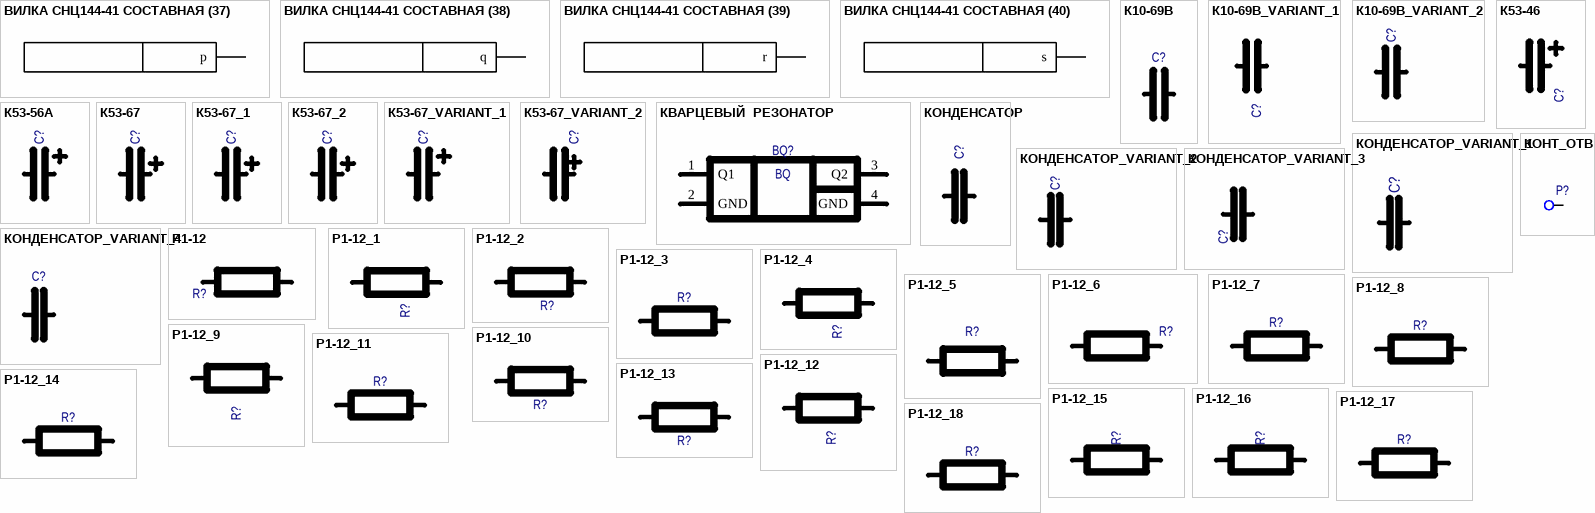
[diagram p8: symbols ВИЛКА СНЦ144-41 СОСТАВНАЯ to Р1-12_18]

## ВИЛКА СНЦ144-41 СОСТАВНАЯ
designator XP?  (value not drawn)
Value: Вилка СНЦ144-41/21ВП21-NWПС; TU: ЦСНК.430421.008ТУ
part A pins: A
part B pins: B
part C pins: C
part D pins: D
part E pins: E
part F pins: F
part G pins: G
part H pins: H
part I pins: J
part J pins: K
part K pins: L
part L pins: M
part M pins: N
part N pins: P
part O pins: R
part P pins: S
part Q pins: T
part R pins: U
part S pins: V
part T pins: W
part U pins: X
part V pins: Y
part W pins: Z
part X pins: a
part Y pins: b
part Z pins: c
part 27 pins: d
part 28 pins: e
part 29 pins: f
part 30 pins: g
part 31 pins: h
part 32 pins: i
part 33 pins: j
part 34 pins: k
part 35 pins: m
part 36 pins: n
part 37 pins: p
part 38 pins: q
part 39 pins: r
part 40 pins: s
part 41 pins: t
part A text: Цепь; Контакт

## К10-69В
designator C?  (value not drawn)
TU: АЖЯР.673511.002ТУ
pins: 1, 2

## К10-69В_VARIANT_1
designator C?, comment К10-69В  (value not drawn)
К10-69В_VARIANT_1; TU: АЖЯР.673511.002ТУ
pins: 1, 2

## К10-69В_VARIANT_2
designator C?, comment К10-69В  (value not drawn)
К10-69В_VARIANT_2; TU: АЖЯР.673511.002ТУ
pins: 1, 2

## К53-46
designator C?  (value not drawn)
Value: К53-56А-10 В-100 мкФ±20 %; TU: АЖЯР.673546.001ТУ
pins: 1, 2

## К53-56А
designator C?  (value not drawn)
Value: К53-56А-10 В-100 мкФ±20 %; TU: АЖЯР.673546.001ТУ
pins: 1, 2

## К53-67
designator C?  (value not drawn)
Value: К53-67-25 В-10 мкФ±10 %; TU: АЖЯР.673546.006ТУ
pins: 1, 2

## К53-67_1
designator C?, comment К53-67  (value not drawn)
Value: К53-67-10 В-10 мкФ±10 %; TU: АЖЯР.673546.006ТУ
pins: 1, 2

## К53-67_2
designator C?, comment К53-67  (value not drawn)
Value: К53-67-4 В-680 мкФ±10 %; TU: АЖЯР.673546.006ТУ
pins: 1, 2

## К53-67_VARIANT_1
designator C?, comment К53-67  (value not drawn)
К53-67_VARIANT_1; Value: К53-67-25 В-1 мкФ±10 %; TU: АЖЯР.673546.006ТУ
pins: 1, 2

## К53-67_VARIANT_2
designator C?, comment К53-67  (value not drawn)
К53-67_VARIANT_2; Value: К53-67-6,3 В-47 мкФ±10 %; TU: АЖЯР.673546.006ТУ
pins: 1, 2

## КВАРЦЕВЫЙ  РЕЗОНАТОР
designator BQ?  (value not drawn)
Value: Резонатор РК463-5ДС-16,0М; TU: ТУ6321-011-07604008-07
pins: 1 Q1, 2 GND, 3 Q2, 4 GND
text: BQ

## КОНДЕНСАТОР
designator C?  (value not drawn)
TU: АЖЯР.673511.002ТУ
pins: 1, 2

## КОНДЕНСАТОР_VARIANT_1
designator C?, comment КОНДЕНСАТОР  (value not drawn)
КОНДЕНСАТОР_VARIANT_1; TU: АЖЯР.673511.002ТУ
pins: 1, 2

## КОНДЕНСАТОР_VARIANT_2
designator C?, comment КОНДЕНСАТОР  (value not drawn)
КОНДЕНСАТОР_VARIANT_2; TU: АЖЯР.673511.002ТУ
pins: 1, 2

## КОНДЕНСАТОР_VARIANT_3
designator C?, comment КОНДЕНСАТОР  (value not drawn)
КОНДЕНСАТОР_VARIANT_3; TU: АЖЯР.673511.002ТУ
pins: 1, 2

## КОНДЕНСАТОР_VARIANT_4
designator C?, comment КОНДЕНСАТОР  (value not drawn)
КОНДЕНСАТОР_VARIANT_4; TU: АЖЯР.673511.002ТУ
pins: 1, 2

## КОНТ_ОТВ
designator P?  (value not drawn)
Value: *
pins: 1

## Р1-12
designator R?  (value not drawn)
Value: Р1-12-0,125-10 кОм±5 %-Т; TU: АЛЯР.434110.005ТУ
pins: 1, 2

## Р1-12_1
designator R?, comment Р1-12  (value not drawn)
Value: Р1-12-0,125-3,3 кОм±5 %-Т; TU: АЛЯР.434110.005ТУ
pins: 1, 2

## Р1-12_2
designator R?, comment Р1-12  (value not drawn)
Value: Р1-12-0,125-1 кОм±5 %-Т; TU: АЛЯР.434110.005ТУ
pins: 1, 2

## Р1-12_3
designator R?, comment Р1-12  (value not drawn)
Value: Р1-12-0,125-27 Ом±5 %-Т; TU: АЛЯР.434110.005ТУ
pins: 1, 2

## Р1-12_4
designator R?, comment Р1-12  (value not drawn)
Value: Р1-12-0,125-1,8 кОм±5 %-Т; TU: АЛЯР.434110.005ТУ
pins: 1, 2

## Р1-12_5
designator R?, comment Р1-12  (value not drawn)
Value: Р1-12-0,125-100 Ом±5 %-Т; TU: АЛЯР.434110.005ТУ
pins: 1, 2

## Р1-12_6
designator R?, comment Р1-12  (value not drawn)
Value: Р1-12-0,125-120 Ом±5 %-Т; TU: АЛЯР.434110.005ТУ
pins: 1, 2

## Р1-12_7
designator R?, comment Р1-12  (value not drawn)
Value: Р1-12-0,25-62 Ом±5 %-Т; TU: АЛЯР.434110.005ТУ
pins: 1, 2

## Р1-12_8
designator R?, comment Р1-12  (value not drawn)
Value: Р1-12-0,125-750 Ом±5 %-Т; TU: АЛЯР.434110.005ТУ
pins: 1, 2

## Р1-12_9
designator R?, comment Р1-12  (value not drawn)
Value: Р1-12-0,25-240 Ом±5 %-T; TU: АЛЯР.434110.005ТУ
pins: 1, 2

## Р1-12_10
designator R?, comment Р1-12  (value not drawn)
Value: Р1-12-0,25-680 Ом±5 %-T; TU: АЛЯР.434110.005ТУ
pins: 1, 2

## Р1-12_11
designator R?, comment Р1-12  (value not drawn)
Value: Р1-12-1-1 Ом±5 %-Т; TU: АЛЯР.434110.005ТУ
pins: 1, 2

## Р1-12_12
designator R?, comment Р1-12  (value not drawn)
Value: Р1-12-0,25-2,4 кОм±5 %-T; TU: АЛЯР.434110.005ТУ
pins: 1, 2

## Р1-12_13
designator R?, comment Р1-12  (value not drawn)
Value: Р1-12-1-75 Ом±5 %-Т; TU: АЛЯР.434110.005ТУ
pins: 1, 2

## Р1-12_14
designator R?, comment Р1-12  (value not drawn)
Value: Р1-12-0,125-36 кОм±5 %-Т; TU: АЛЯР.434110.005ТУ
pins: 1, 2

## Р1-12_15
designator R?, comment Р1-12  (value not drawn)
Value: Р1-12-0,5-2,7 кОм±5 %-Т; TU: АЛЯР.434110.005ТУ
pins: 1, 2

## Р1-12_16
designator R?, comment Р1-12  (value not drawn)
Value: Р1-12-0,25-75 Ом±5 %-Т; TU: АЛЯР.434110.005ТУ
pins: 1, 2

## Р1-12_17
designator R?, comment Р1-12  (value not drawn)
Value: Р1-12-0,125-4,7 кОм±5 %-Т; TU: АЛЯР.434110.005ТУ
pins: 1, 2

## Р1-12_18
designator R?, comment Р1-12  (value not drawn)
Value: Р1-12-0,125-47 кОм±5 %-Т; TU: АЛЯР.434110.005ТУ
pins: 1, 2

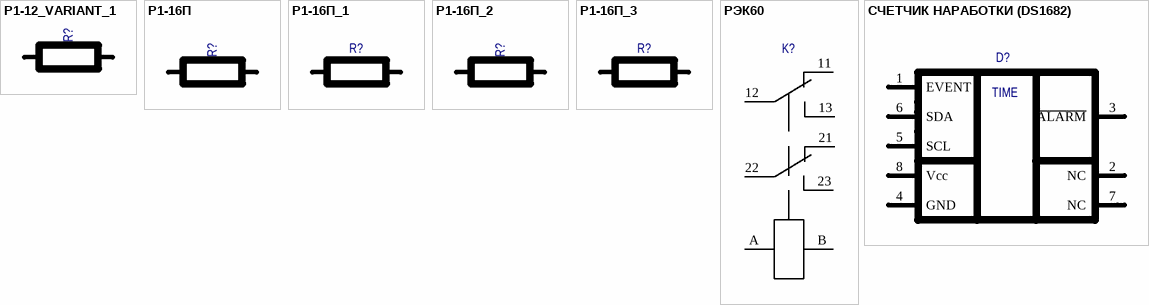
[diagram p9: symbols Р1-12_VARIANT_1 to СЧЕТЧИК НАРАБОТКИ (DS1682)]

## Р1-12_VARIANT_1
designator R?, comment Р1-12  (value not drawn)
Р1-12_VARIANT_1; Value: Р1-12-0,125-10 кОм±5 %-Т; TU: АЛЯР.434110.005ТУ
pins: 1, 2

## Р1-16П
designator R?  (value not drawn)
Value: Р1-16П-0,062-10 кОм±0,1 %-Ж; TU: АЛЯР.434110.002ТУ
pins: 1, 2

## Р1-16П_1
designator R?, comment Р1-16П  (value not drawn)
Value: Р1-16П-0,062-3,61 кОм±0,1%-Ж; TU: АЛЯР.434110.002ТУ
pins: 1, 2

## Р1-16П_2
designator R?, comment Р1-16П  (value not drawn)
Value: Р1-16П-0,062-1 кОм±0,1 %-Ж; TU: АЛЯР.434110.002ТУ
pins: 1, 2

## Р1-16П_3
designator R?, comment Р1-16П  (value not drawn)
Value: Р1-16П-0,062-100 кОм±0,1 %-Ж; TU: АЛЯР.434110.002ТУ
pins: 1, 2

## РЭК60
designator K?  (value not drawn)
Value: Реле РЭК61В РВИМ.647611.008-18; TU: РВИМ.647611.008ТУ
pins: 11, 12, 13, 21, 22, 23, A, B

## СЧЕТЧИК НАРАБОТКИ (DS1682)
designator D?  (value not drawn)
Value: DS1682S, SO-8, MAXIM
pins: 1 EVENT, 2 NC, 3 ~{ALARM}, 4 GND, 5 SCL, 6 SDA, 7 NC, 8 Vcc
text: TIME